# Altium footprint library led.PCBLIB: 114 footprints (part 3 of 8)
Each footprint in its own frame and in the unit in brackets; x right, y up, seen from the top. Pads: shape width x height; smd on the part's side, far side on the other; paste and mask are expansions set on the pad; w line width, h text height; cw(c..) or ccw(c..) is an arc to the next point about the centre after c.
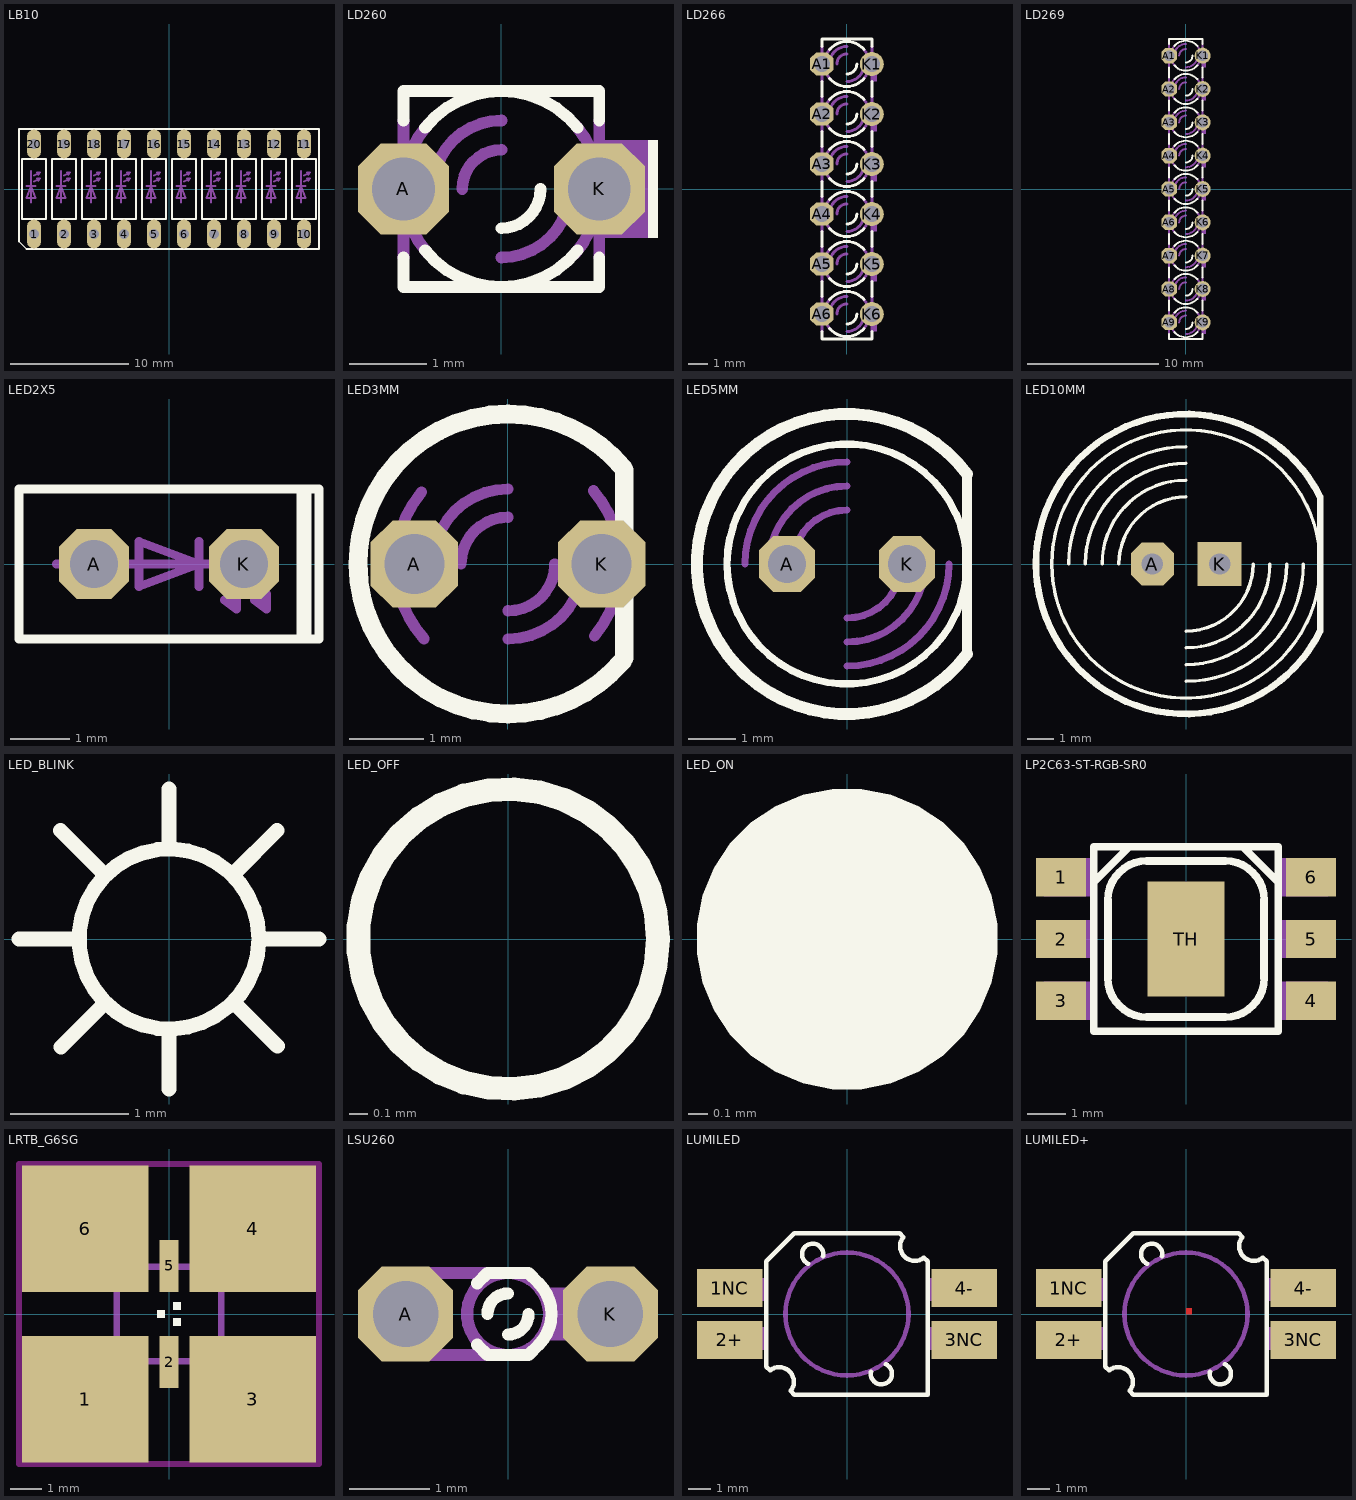
[diagram p2: the footprints below, top view; thin cyan lines are the x and y axes]

## LB10 [mil]
pads (20):
  oval 48x96 hole 32: 1(-450,-150) 2(-350,-150) 3(-250,-150) 4(-150,-150) 5(-50,-150) 6(50,-150) 7(150,-150) 8(250,-150) 9(350,-150) 10(450,-150) 11(450,150) 12(350,150) 13(250,150) 14(150,150) 15(50,150) 16(-50,150) 17(-150,150) 18(-250,150) 19(-350,150) 20(-450,150)
Top Overlay:
  lines w6: -500,-175 -500,200 500,200 500,-200 -475,-200 -500,-175 ; -490,-100 -410,-100 -410,100 -490,100 -490,-100 ; -390,-100 -310,-100 -310,100 -390,100 -390,-100 ; -290,-100 -210,-100 -210,100 -290,100 -290,-100 ; -190,-100 -190,100 -110,100 -110,-100 -190,-100 ; -90,-100 -90,100 -10,100 -10,-100 -90,-100 ; 10,-100 10,100 90,100 90,-100 10,-100 ; 110,-100 110,100 190,100 190,-100 110,-100 ; 210,-100 210,100 290,100 290,-100 210,-100 ; 310,-100 310,100 390,100 390,-100 310,-100 ; 410,-100 410,100 490,100 490,-100 410,-100
Mechanical 4:
  lines w6: -475,10 -460,10 ; -460,-45 -460,10 ; -460,60 -460,10 ; -450,25 -430,35 ; -450,45 -430,55 ; -445,10 -460,10 ; -375,10 -360,10 ; -360,-45 -360,10 ; -360,60 -360,10 ; -350,25 -330,35 ; -350,45 -330,55 ; -345,10 -360,10 ; -275,10 -260,10 ; -260,-45 -260,10 ; -260,60 -260,10 ; -250,25 -230,35 ; -250,45 -230,55 ; -245,10 -260,10 ; -175,10 -160,10 ; -160,-45 -160,10 ; -160,60 -160,10 ; -150,25 -130,35 ; -150,45 -130,55 ; -145,10 -160,10 ; -75,10 -60,10 ; -60,-45 -60,10 ; -60,60 -60,10 ; -50,25 -30,35 ; -50,45 -30,55 ; -45,10 -60,10 ; 25,10 40,10 ; 40,-45 40,10 ; 40,60 40,10 ; 50,25 70,35 ; 50,45 70,55 ; 55,10 40,10 ; 125,10 140,10 ; 140,-45 140,10 ; 140,60 140,10 ; 150,25 170,35 ; 150,45 170,55 ; 155,10 140,10 ; 225,10 240,10 ; 240,-45 240,10 ; 240,60 240,10 ; 250,25 270,35 ; 250,45 270,55 ; 255,10 240,10 ; 325,10 340,10 ; 340,-45 340,10 ; 340,60 340,10 ; 350,25 370,35 ; 350,45 370,55 ; 355,10 340,10 ; 425,10 440,10 ; 440,-45 440,10 ; 440,60 440,10 ; 450,25 470,35 ; 450,45 470,55 ; 455,10 440,10 ; -460,10 -475,-30 -445,-30 -460,10 ; -430,35 -440,35 -436,27 -430,35 ; -430,55 -440,55 -436,47 -430,55 ; -360,10 -375,-30 -345,-30 -360,10 ; -330,35 -340,35 -336,27 -330,35 ; -330,55 -340,55 -336,47 -330,55 ; -260,10 -275,-30 -245,-30 -260,10 ; -230,35 -240,35 -236,27 -230,35 ; -230,55 -240,55 -236,47 -230,55 ; -160,10 -175,-30 -145,-30 -160,10 ; -130,35 -140,35 -136,27 -130,35 ; -130,55 -140,55 -136,47 -130,55 ; -60,10 -75,-30 -45,-30 -60,10 ; -30,35 -40,35 -36,27 -30,35 ; -30,55 -40,55 -36,47 -30,55 ; 40,10 25,-30 55,-30 40,10 ; 70,35 60,35 64,27 70,35 ; 70,55 60,55 64,47 70,55 ; 140,10 125,-30 155,-30 140,10 ; 170,35 160,35 164,27 170,35 ; 170,55 160,55 164,47 170,55 ; 240,10 225,-30 255,-30 240,10 ; 270,35 260,35 264,27 270,35 ; 270,55 260,55 264,47 270,55 ; 340,10 325,-30 355,-30 340,10 ; 370,35 360,35 364,27 370,35 ; 370,55 360,55 364,47 370,55 ; 440,10 425,-30 455,-30 440,10 ; 470,35 460,35 464,27 470,35 ; 470,55 460,55 464,47 470,55

## LD260 [mil]
pads (2):
  oct 46.48x46.48 hole 32: A(-50,0) K(50,0)
Top Overlay:
  rectangle: 75,-25 80,25
  lines w6: -50,-35 -50,-50 0,-50 ; -50,35 -50,50 0,50 ; -39.04,-31.24 ccw(c0,-0.01) 0,-50 ; -39.04,31.24 cw(c0,0.01) 0,50 ; 0,-20 ccw(c0,0) 20,0 ; 39.04,-31.24 cw(c0,-0.01) 0,-50 ; 39.04,31.24 ccw(c0,0.01) 0,50 ; 50,-35 50,-50 0,-50 ; 50,35 50,50 0,50
Mechanical 4:
  rectangle: 50,-25 80,25
  lines w6: -50,-35 -50,0 ; -50,35 -50,0 ; -37.96,-32.54 cw(c0,0) -50,0 ; -37.96,32.54 ccw(c0,0) -50,0 ; -35,0 cw(c0,0) 0,35 ; -20,0 cw(c0,0) 0,20 ; 0,-35 ccw(c0,0) 35,0 ; 37.63,-32.93 ccw(c-0.01,0) 50,0 ; 38.41,32.01 cw(c0,0) 50,0 ; 50,-35 50,0 ; 50,35 50,0

## LD266 [mil]
pads (12):
  oct 46.48x46.48 hole 32: A1(-50,250) A2(-50,150) A3(-50,50) A4(-50,-50) A5(-50,-150) A6(-50,-250)
  round 48 hole 32: K1(50,250) K2(50,150) K3(50,50) K4(50,-50) K5(50,-150) K6(50,-250)
Top Overlay:
  lines w6: -50,-285 -50,-300 50,-300 50,-285 ; -50,-215 -50,-185 ; -50,-115 -50,-85 ; -50,-15 -50,15 ; -50,85 -50,115 ; -50,185 -50,215 ; -50,285 -50,300 50,300 50,285 ; -34.17,-279.29 ccw(c-0.01,-250) 0,-295 ccw(c0.01,-250) 34.17,-279.29 ; -34.17,-220.71 cw(c-0.01,-250) 0,-205 cw(c0.01,-250) 34.17,-220.71 ; -34.17,-179.29 ccw(c-0.01,-150) 0,-195 ccw(c0.01,-150) 34.17,-179.29 ; -34.17,-120.71 cw(c-0.01,-150) 0,-105 cw(c0.01,-150) 34.17,-120.71 ; -34.17,-79.29 ccw(c-0.01,-50) 0,-95 ccw(c0.01,-50) 34.17,-79.29 ; -34.17,-20.71 cw(c-0.01,-50) 0,-5 cw(c0.01,-50) 34.17,-20.71 ; -34.17,20.71 ccw(c-0.01,50) 0,5 ccw(c0.01,50) 34.17,20.71 ; -34.17,79.29 cw(c-0.01,50) 0,95 cw(c0.01,50) 34.17,79.29 ; -34.17,120.71 ccw(c-0.01,150) 0,105 ccw(c0.01,150) 34.17,120.71 ; -34.17,179.29 cw(c-0.01,150) 0,195 cw(c0.01,150) 34.17,179.29 ; -34.17,220.71 ccw(c-0.01,250) 0,205 ccw(c0.01,250) 34.17,220.71 ; -34.17,279.29 cw(c-0.01,250) 0,295 cw(c0.01,250) 34.17,279.29 ; 0,-270 ccw(c0,-250) 20,-250 ; 0,-170 ccw(c0,-150) 20,-150 ; 0,-70 ccw(c0,-50) 20,-50 ; 0,30 ccw(c0,50) 20,50 ; 0,130 ccw(c0,150) 20,150 ; 0,230 ccw(c0,250) 20,250 ; 50,-215 50,-185 ; 50,-115 50,-85 ; 50,-15 50,15 ; 50,85 50,115 ; 50,185 50,215
Mechanical 4:
  rectangle: 50,215 60,260
  rectangle: -60,240 -50,260
  rectangle: 50,115 60,160
  rectangle: -60,140 -50,160
  rectangle: 50,15 60,60
  rectangle: -60,40 -50,60
  rectangle: 50,-85 60,-40
  rectangle: -60,-60 -50,-40
  rectangle: 50,-185 60,-140
  rectangle: -60,-160 -50,-140
  rectangle: 50,-285 60,-240
  rectangle: -60,-260 -50,-240
  lines w6: -50,-285 -50,-215 ; -50,-185 -50,-115 ; -50,-85 -50,-15 ; -50,15 -50,85 ; -50,115 -50,185 ; -50,215 -50,285 ; -35,-250 cw(c0,-250) 0,-215 ; -35,-150 cw(c0,-150) 0,-115 ; -35,-50 cw(c0,-50) 0,-15 ; -35,50 cw(c0,50) 0,85 ; -35,150 cw(c0,150) 0,185 ; -35,250 cw(c0,250) 0,285 ; -34.16,-279.29 cw(c0,-250) -45,-250 cw(c0,-249.99) -34.17,-220.71 ; -34.16,-179.29 cw(c0,-150) -45,-150 cw(c0,-149.99) -34.17,-120.71 ; -34.16,-79.29 cw(c0,-50) -45,-50 cw(c0,-49.99) -34.17,-20.71 ; -34.17,20.71 cw(c0,49.99) -45,50 cw(c0,50) -34.16,79.29 ; -34.17,120.71 cw(c0,149.99) -45,150 cw(c0,150) -34.16,179.29 ; -34.17,220.71 cw(c0,249.99) -45,250 cw(c0,250) -34.16,279.29 ; -20,-250 cw(c0,-250) 0,-230 ; -20,-150 cw(c0,-150) 0,-130 ; -20,-50 cw(c0,-50) 0,-30 ; -20,50 cw(c0,50) 0,70 ; -20,150 cw(c0,150) 0,170 ; -20,250 cw(c0,250) 0,270 ; 0,-285 ccw(c0,-250) 35,-250 ; 0,-185 ccw(c0,-150) 35,-150 ; 0,-85 ccw(c0,-50) 35,-50 ; 0,15 ccw(c0,50) 35,50 ; 0,115 ccw(c0,150) 35,150 ; 0,215 ccw(c0,250) 35,250 ; 34.17,-279.29 ccw(c0,-250.01) 45,-250 ccw(c0,-249.99) 34.17,-220.71 ; 34.17,-179.29 ccw(c0,-150.01) 45,-150 ccw(c0,-149.99) 34.17,-120.71 ; 34.17,-79.29 ccw(c0,-50.01) 45,-50 ccw(c0,-49.99) 34.17,-20.71 ; 34.17,20.71 ccw(c0,49.99) 45,50 ccw(c0,50.01) 34.17,79.29 ; 34.17,120.71 ccw(c0,149.99) 45,150 ccw(c0,150.01) 34.17,179.29 ; 34.17,220.71 ccw(c0,249.99) 45,250 ccw(c0,250.01) 34.17,279.29 ; 50,-285 50,-215 ; 50,-185 50,-115 ; 50,-85 50,-15 ; 50,15 50,85 ; 50,115 50,185 ; 50,215 50,285

## LD269 [mil]
pads (18):
  oct 46.48x46.48 hole 32: A1(-50,400) A2(-50,300) A3(-50,200) A4(-50,100) A5(-50,0) A6(-50,-100) A7(-50,-200) A8(-50,-300) A9(-50,-400)
  round 48 hole 32: K1(50,400) K2(50,300) K3(50,200) K4(50,100) K5(50,0) K6(50,-100) K7(50,-200) K8(50,-300) K9(50,-400)
Top Overlay:
  lines w6: -50,-435 -50,-450 50,-450 50,-435 ; -50,-365 -50,-335 ; -50,-265 -50,-235 ; -50,-165 -50,-135 ; -50,-65 -50,-35 ; -50,35 -50,65 ; -50,135 -50,165 ; -50,235 -50,265 ; -50,335 -50,365 ; -50,435 -50,450 50,450 50,435 ; -34.17,-429.29 ccw(c-0.01,-400) 0,-445 ccw(c0.01,-400) 34.17,-429.29 ; -34.17,-370.71 cw(c-0.01,-400) 0,-355 cw(c0.01,-400) 34.17,-370.71 ; -34.17,-329.29 ccw(c-0.01,-300) 0,-345 ccw(c0.01,-300) 34.17,-329.29 ; -34.17,-270.71 cw(c-0.01,-300) 0,-255 cw(c0.01,-300) 34.17,-270.71 ; -34.17,-229.29 ccw(c-0.01,-200) 0,-245 ccw(c0.01,-200) 34.17,-229.29 ; -34.17,-170.71 cw(c-0.01,-200) 0,-155 cw(c0.01,-200) 34.17,-170.71 ; -34.17,-129.29 ccw(c-0.01,-100) 0,-145 ccw(c0.01,-100) 34.17,-129.29 ; -34.17,-70.71 cw(c-0.01,-100) 0,-55 cw(c0.01,-100) 34.17,-70.71 ; -34.17,-29.29 ccw(c-0.01,0) 0,-45 ccw(c0.01,0) 34.17,-29.29 ; -34.17,29.29 cw(c-0.01,0) 0,45 cw(c0.01,0) 34.17,29.29 ; -34.17,70.71 ccw(c-0.01,100) 0,55 ccw(c0.01,100) 34.17,70.71 ; -34.17,129.29 cw(c-0.01,100) 0,145 cw(c0.01,100) 34.17,129.29 ; -34.17,170.71 ccw(c-0.01,200) 0,155 ccw(c0.01,200) 34.17,170.71 ; -34.17,229.29 cw(c-0.01,200) 0,245 cw(c0.01,200) 34.17,229.29 ; -34.17,270.71 ccw(c-0.01,300) 0,255 ccw(c0.01,300) 34.17,270.71 ; -34.17,329.29 cw(c-0.01,300) 0,345 cw(c0.01,300) 34.17,329.29 ; -34.17,370.71 ccw(c-0.01,400) 0,355 ccw(c0.01,400) 34.17,370.71 ; -34.17,429.29 cw(c-0.01,400) 0,445 cw(c0.01,400) 34.17,429.29 ; 0,-420 ccw(c0,-400) 20,-400 ; 0,-320 ccw(c0,-300) 20,-300 ; 0,-220 ccw(c0,-200) 20,-200 ; 0,-120 ccw(c0,-100) 20,-100 ; 0,-20 ccw(c0,0) 20,0 ; 0,80 ccw(c0,100) 20,100 ; 0,180 ccw(c0,200) 20,200 ; 0,280 ccw(c0,300) 20,300 ; 0,380 ccw(c0,400) 20,400 ; 50,-365 50,-335 ; 50,-265 50,-235 ; 50,-165 50,-135 ; 50,-65 50,-35 ; 50,35 50,65 ; 50,135 50,165 ; 50,235 50,265 ; 50,335 50,365
Mechanical 4:
  rectangle: -60,-410 -50,-390
  rectangle: 50,-435 60,-390
  rectangle: -60,-310 -50,-290
  rectangle: 50,-335 60,-290
  rectangle: -60,-210 -50,-190
  rectangle: 50,-235 60,-190
  rectangle: -60,190 -50,210
  rectangle: 50,165 60,210
  rectangle: -60,290 -50,310
  rectangle: 50,265 60,310
  rectangle: -60,390 -50,410
  rectangle: 50,365 60,410
  rectangle: -60,-110 -50,-90
  rectangle: 50,-135 60,-90
  rectangle: -60,-10 -50,10
  rectangle: 50,-35 60,10
  rectangle: -60,90 -50,110
  rectangle: 50,65 60,110
  lines w6: -50,-435 -50,-365 ; -50,-335 -50,-265 ; -50,-235 -50,-165 ; -50,-135 -50,-65 ; -50,-35 -50,35 ; -50,65 -50,135 ; -50,165 -50,235 ; -50,265 -50,335 ; -50,365 -50,435 ; -35,-400 cw(c0,-400) 0,-365 ; -35,-300 cw(c0,-300) 0,-265 ; -35,-200 cw(c0,-200) 0,-165 ; -35,-100 cw(c0,-100) 0,-65 ; -35,0 cw(c0,0) 0,35 ; -35,100 cw(c0,100) 0,135 ; -35,200 cw(c0,200) 0,235 ; -35,300 cw(c0,300) 0,335 ; -35,400 cw(c0,400) 0,435 ; -34.16,-429.29 cw(c0,-400) -45,-400 cw(c0,-399.99) -34.17,-370.71 ; -34.16,-329.29 cw(c0,-300) -45,-300 cw(c0,-299.99) -34.17,-270.71 ; -34.16,-229.29 cw(c0,-200) -45,-200 cw(c0,-199.99) -34.17,-170.71 ; -34.16,-129.29 cw(c0,-100) -45,-100 cw(c0,-99.99) -34.17,-70.71 ; -34.17,-29.29 cw(c0,-0.01) -45,0 cw(c0,0.01) -34.17,29.29 ; -34.17,70.71 cw(c0,99.99) -45,100 cw(c0,100) -34.16,129.29 ; -34.17,170.71 cw(c0,199.99) -45,200 cw(c0,200) -34.16,229.29 ; -34.17,270.71 cw(c0,299.99) -45,300 cw(c0,300) -34.16,329.29 ; -34.17,370.71 cw(c0,399.99) -45,400 cw(c0,400) -34.16,429.29 ; -20,-400 cw(c0,-400) 0,-380 ; -20,-300 cw(c0,-300) 0,-280 ; -20,-200 cw(c0,-200) 0,-180 ; -20,-100 cw(c0,-100) 0,-80 ; -20,0 cw(c0,0) 0,20 ; -20,100 cw(c0,100) 0,120 ; -20,200 cw(c0,200) 0,220 ; -20,300 cw(c0,300) 0,320 ; -20,400 cw(c0,400) 0,420 ; 0,-435 ccw(c0,-400) 35,-400 ; 0,-335 ccw(c0,-300) 35,-300 ; 0,-235 ccw(c0,-200) 35,-200 ; 0,-135 ccw(c0,-100) 35,-100 ; 0,-35 ccw(c0,0) 35,0 ; 0,65 ccw(c0,100) 35,100 ; 0,165 ccw(c0,200) 35,200 ; 0,265 ccw(c0,300) 35,300 ; 0,365 ccw(c0,400) 35,400 ; 34.17,-429.29 ccw(c0,-400.01) 45,-400 ccw(c0,-399.99) 34.17,-370.71 ; 34.17,-329.29 ccw(c0,-300.01) 45,-300 ccw(c0,-299.99) 34.17,-270.71 ; 34.17,-229.29 ccw(c0,-200.01) 45,-200 ccw(c0,-199.99) 34.17,-170.71 ; 34.17,-129.29 ccw(c0,-100.01) 45,-100 ccw(c0,-99.99) 34.17,-70.71 ; 34.17,-29.29 ccw(c0,-0.01) 45,0 ccw(c0,0.01) 34.17,29.29 ; 34.17,70.71 ccw(c0,99.99) 45,100 ccw(c0,100.01) 34.17,129.29 ; 34.17,170.71 ccw(c0,199.99) 45,200 ccw(c0,200.01) 34.17,229.29 ; 34.17,270.71 ccw(c0,299.99) 45,300 ccw(c0,300.01) 34.17,329.29 ; 34.17,370.71 ccw(c0,399.99) 45,400 ccw(c0,400.01) 34.17,429.29 ; 50,-435 50,-365 ; 50,-335 50,-265 ; 50,-235 50,-165 ; 50,-135 50,-65 ; 50,-35 50,35 ; 50,65 50,135 ; 50,165 50,235 ; 50,265 50,335 ; 50,365 50,435

## LED2X5 [mil]
pads (2):
  oct 46.48x46.48 hole 32: A(-50,0) K(50,0)
Top Overlay:
  rectangle: 85,-50 95,50
  lines w6: -100,-50 100,-50 100,50 -100,50 -100,-50
Mechanical 4:
  lines w6: -75,0 20,0 ; 20,-15 20,0 ; 20,15 20,0 ; 35,-10 45,-30 ; 55,-10 65,-30 ; 70,0 20,0 ; 20,0 -20,15 -20,-15 20,0 ; 45,-30 45,-20 37,-24 45,-30 ; 65,-30 65,-20 57,-24 65,-30

## LED3MM [mil]
pads (2):
  oct 46.48x46.48 hole 32: A(-50,0) K(50,0)
Top Overlay:
  lines w10: -70.59,37.65 cw(c0,0) 0,80 cw(c0.01,0) 61.46,51.22 ; -70.44,37.93 ccw(c0,0.01) -80,0 ccw(c0,0) -68.13,-41.93 ; -69.46,-39.69 ccw(c0,0) 0,-80 ccw(c0,0) 61.07,-51.68 ; 62,-50 62,50
Mechanical 4:
  lines w6: -46.09,38.41 ccw(c0,-0.01) -60,0 ccw(c0,-0.01) -44.85,-39.86 ; -40,0 cw(c0,0) 0,40 ; -25,0 cw(c0,0) 0,25 ; 0,-40 ccw(c0,0) 40,0 ; 0,-25 ccw(c0,0) 25,0 ; 45.56,39.05 cw(c0,0.01) 60,0 cw(c0,0.01) 46.09,-38.41
3D body "User Library-led 3mm white.STEP": height 265.87, standoff -28.43, extent -65.51,-65.07 61,64.74

## LED5MM [mil]
pads (2):
  oct 46.48x46.48 hole 32: A(-50,0) K(50,0)
Top Overlay:
  circle w6: c0,0 r100
  lines w8: 100,-75 100,75
  lines w10: 100,-75 cw(c0,0) 100,75
Mechanical 4:
  lines w6: -85,0 cw(c0,0) 0,85 ; -65,0 cw(c0,0) 0,65 ; -45,0 cw(c0,0) 0,45 ; 0,-85 ccw(c0,0) 85,0 ; 0,-65 ccw(c0,0) 65,0 ; 0,-45 ccw(c0,0) 45,0

## LED10MM [mil]
pads (2):
  oct 63.9x63.9 hole 32: A(-50,0)
  rect 66x66 hole 32: K(50,0)
Top Overlay:
  circle w5: c0,0 r200
  lines w5: -175,0 cw(c0,0) 0,175 ; -150,0 cw(c0,0) 0,150 ; -125,0 cw(c0,0) 0,125 ; -100,0 cw(c0,0) 0,100 ; 0,-175 ccw(c0,0) 175,0 ; 0,-150 ccw(c0,0) 150,0 ; 0,-125 ccw(c0,0) 125,0 ; 0,-100 ccw(c0,0) 100,0
  lines w10: 200,-100 cw(c0,0) 200,100 200,-100

## LED_BLINK [mil]
Top Overlay:
  circle w5: c0,0 r30
  lines w5: -50,0 -30,0 ; -36.24,36.24 -22.1,22.1 ; -36.07,-36.07 -21.93,-21.93 ; 0,-50 0,-30 ; 0,30 0,50 ; 21.81,21.98 35.95,36.12 ; 21.98,-21.57 36.12,-35.7 ; 30,0 50,0

## LED_OFF [mil]
Top Overlay:
  circle w5: c0,0 r31.62

## LED_ON [mil]
Top Overlay:
  region: 0,30 -2.95,30 -8.75,28.85 -14.21,26.59 -19.12,23.3 -23.3,19.12 -26.59,14.21 -28.85,8.75 -30,2.95 -30,0 -30,-2.95 -28.85,-8.75 -26.59,-14.21 -23.3,-19.12 -19.12,-23.3 -14.21,-26.59 -8.75,-28.85 -2.95,-30 0,-30 2.95,-30 8.75,-28.85 14.21,-26.59 19.12,-23.3 23.3,-19.12 26.59,-14.21 28.85,-8.75 30,-2.95 30,0 30,2.95 28.85,8.75 26.59,14.21 23.3,19.12 19.12,23.3 14.21,26.59 8.75,28.85 2.95,30

## LP2C63-ST-RGB-SR0 [mm]
pads (7):
  rect 1.3x1 smd: 1(-3.25,1.6) 2(-3.25,0) 3(-3.25,-1.6) 4(3.25,-1.6) 5(3.25,0) 6(3.25,1.6)
  rect 2x3 smd: TH(0,0)
Top Overlay:
  lines w0.203: -2.375,1.5 -1.5,2.375 ; 1.5,2.375 2.375,1.5 ; -2.4,-2.4 -2.4,2.4 2.4,2.4 2.4,-2.4 -2.4,-2.4 ; -2.032,-1.016 ccw(c-1.016,-1.016) -1.016,-2.032 1.016,-2.032 ccw(c1.016,-1.016) 2.032,-1.016 2.032,1.016 ccw(c1.016,1.016) 1.016,2.032 -1.016,2.032 ccw(c-1.016,1.016) -2.032,1.016 -2.032,-1.016
Mechanical 4:
  region: 3.7,2.1 2.5,2.1 2.5,1.1 3.7,1.1
  region: 3.7,-1.1 2.5,-1.1 2.5,-2.1 3.7,-2.1
  region: 3.7,0.5 2.5,0.5 2.5,-0.5 3.7,-0.5
  rectangle: -3.7,-2.1 -2.5,-1.1
  rectangle: -3.7,1.1 -2.5,2.1
  rectangle: -3.7,-0.5 -2.5,0.5

## LRTB_G6SG [mm]
pads (6):
  rect 4x4 smd paste-2 mask-2: 1(-2.65,-2.7) 3(2.65,-2.7) 4(2.65,2.7) 6(-2.65,2.7)
  rect 0.6x1.65 smd paste-0.825 mask-0.825: 2(0,-1.525) 5(0,1.525)
Top Overlay:
  rectangle: 0.125,0.125 0.375,0.375
  rectangle: 0.125,-0.375 0.375,-0.125
  rectangle: -0.375,-0.125 -0.125,0.125
Top Paste:
  region: -0.7,2.3 -1.4,2.3 -1.4,0.75 -0.7,0.75
  region: 0.25,2.3 -0.25,2.3 -0.25,0.75 0.25,0.75
  region: 1.4,2.3 0.7,2.3 0.7,0.75 1.4,0.75
  rectangle: 0.7,-2.3 1.4,-0.75
  rectangle: -0.25,-2.3 0.25,-0.75
  rectangle: -1.4,-2.3 -0.7,-0.75
Top Solder:
  region: -0.65,2.35 -1.45,2.35 -1.45,0.7 -0.65,0.7
  region: 0.3,2.35 -0.3,2.35 -0.3,0.7 0.3,0.7
  region: 1.45,2.35 0.65,2.35 0.65,0.7 1.45,0.7
  rectangle: 0.65,-2.35 1.45,-0.7
  rectangle: -0.3,-2.35 0.3,-0.7
  rectangle: -1.45,-2.35 -0.65,-0.7
Keep-Out Layer:
  lines w0.203: -4.75,-4.75 -4.75,4.75 4.75,4.75 4.75,-4.75 -4.75,-4.75
Mechanical 4:
  lines w0.203: -1.65,-0.75 -0.9,-1.5 ; -1.65,-0.75 -1.65,1.5 1.65,1.5 1.65,-1.5 -0.9,-1.5 ; -1.65,-0.75 -1.65,-1.5 -0.9,-1.5

## LSU260 [mil]
pads (2):
  oct 46.48x46.48 hole 32: A(-50,0) K(50,0)
Top Overlay:
  lines w6: -15,-15 -10,-20 10,-20 15,-15 ccw(c0,0) 15,15 10,20 -10,20 -15,15 ; -10,0 cw(c0,0) 0,10 ; 0,-10 ccw(c0,0) 10,0
Mechanical 4:
  circle w6: c0,0 r20
  rectangle: 20,-10 55,10
  rectangle: -55,-10 -45,10
  lines w6: 0,-20 -45,-20 -45,-10 ; 0,20 -45,20 -45,10 ; 20,-10 55,-10 55,10 20,10 ; -45,-10 -45,10 ; -45,-10 -55,-10 -55,10 -45,10

## LUMILED [mil]
pads (4):
  rect 114.17x66.93 smd: 1NC(-204.72,45.28) 2+(-204.72,-45.28) 3NC(204.72,-45.28) 4-(204.72,45.28)
Top Overlay:
  lines w8: -67.91,87.6 cw(c-60.01,104.33) -41.83,100.89 ; 41.83,-100.89 ccw(c60.01,-104.33) 67.91,-87.6 ; -140.75,-92.03 -140.75,92.03 -92.03,140.75 92.03,140.75 98.43,134.35 ccw(c118.37,118.37) 134.35,98.43 140.75,92.03 140.75,-140.75 -92.03,-140.75 -98.43,-134.35 ccw(c-118.37,-118.37) -134.35,-98.43 -140.75,-92.03
Top Paste:
  region: 0,0 10,0 10,10 0,10
Top Solder:
  region: 0,0 10,0 10,10 0,10
Mechanical 4:
  circle w8: c0,0 r107.28
  region: 235.24,62.99 142.72,62.99 142.72,22.64 235.24,22.64
  region: 235.24,-22.64 142.72,-22.64 142.72,-62.99 235.24,-62.99
  rectangle: -235.24,-62.99 -142.72,-22.64
  rectangle: -235.24,22.64 -142.72,62.99

## LUMILED+ [mil]
pads (4):
  rect 114.17x66.93 smd: 1NC(-204.72,45.28) 2+(-204.72,-45.28) 3NC(204.72,-45.28) 4-(204.72,45.28)
Top Layer:
  region: 0,0 10,0 10,10 0,10
Top Overlay:
  lines w8: -67.91,87.6 cw(c-60.01,104.33) -41.83,100.89 ; 41.83,-100.89 ccw(c60.01,-104.33) 67.91,-87.6 ; -140.75,-92.03 -140.75,92.03 -92.03,140.75 92.03,140.75 98.43,134.35 ccw(c118.37,118.37) 134.35,98.43 140.75,92.03 140.75,-140.75 -92.03,-140.75 -98.43,-134.35 ccw(c-118.37,-118.37) -134.35,-98.43 -140.75,-92.03
Top Paste:
  region: 0,0 10,0 10,10 0,10
Top Solder:
  region: 0,0 10,0 10,10 0,10
Mechanical 4:
  circle w8: c0,0 r107.28
  region: 235.24,62.99 142.72,62.99 142.72,22.64 235.24,22.64
  region: 235.24,-22.64 142.72,-22.64 142.72,-62.99 235.24,-62.99
  rectangle: -235.24,-62.99 -142.72,-22.64
  rectangle: -235.24,22.64 -142.72,62.99